# Altium footprint library My.PcbLib: 235 footprints (part 15 of 15)
Each footprint in its own frame and in the unit in brackets; x right, y up, seen from the top. Pads: shape width x height; smd on the part's side, far side on the other; paste and mask are expansions set on the pad; w line width, h text height; cw(c..) or ccw(c..) is an arc to the next point about the centre after c.
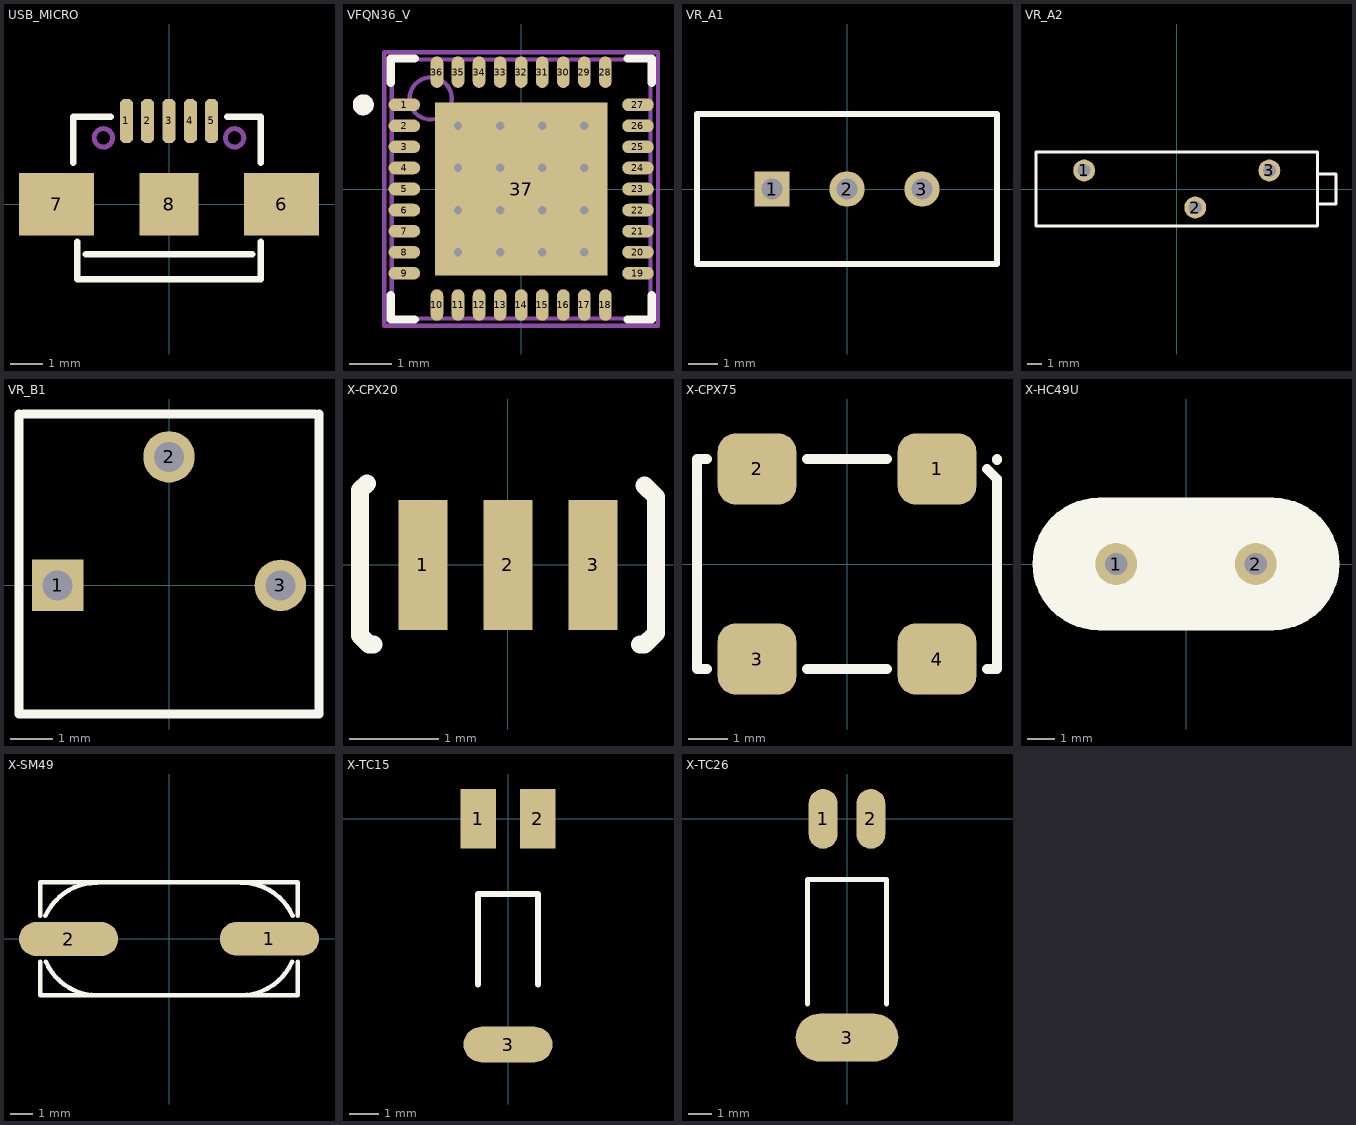
[diagram p14: the footprints below, top view; thin cyan lines are the x and y axes]

## USB_MICRO [mm] "USB方孔"
height 8
pads (8):
  oct 0.4x1.35 smd: 1(-1.3,2.54) 2(-0.65,2.54) 3(0,2.54) 4(0.65,2.54) 5(1.3,2.54)
  rect 2.286x1.9 smd: 6(3.429,0) 7(-3.429,0)
  rect 1.8x1.9 smd: 8(0,0)
Top Overlay:
  lines w0.2: -2.921,1.27 -2.921,2.667 -1.778,2.667 ; -2.794,-1.143 -2.794,-2.286 2.794,-2.286 2.794,-1.143 ; -2.54,-1.524 2.54,-1.524 ; 1.778,2.667 2.794,2.667 2.794,1.27
Mechanical 1:
  circle w0.15: c-2,2.023 r0.28
  circle w0.15: c2,2.023 r0.28

## VFQN36_V [mm] "QFN, 36-Leads, Body 6x6mm, Pitch 0.5mm, ST Recommended"
height 1
pads (37):
  oval 0.75x0.3 smd: 1(-2.775,2) 2(-2.775,1.5) 3(-2.775,1) 4(-2.775,0.5) 5(-2.775,0) 6(-2.775,-0.5) 7(-2.775,-1) 8(-2.775,-1.5) 9(-2.775,-2) 19(2.775,-2) 20(2.775,-1.5) 21(2.775,-1) 22(2.775,-0.5) 23(2.775,0) 24(2.775,0.5) 25(2.775,1) 26(2.775,1.5) 27(2.775,2)
  oval 0.3x0.75 smd: 10(-2,-2.755) 11(-1.5,-2.755) 12(-1,-2.755) 13(-0.5,-2.755) 14(0,-2.755) 15(0.5,-2.755) 16(1,-2.755) 17(1.5,-2.755) 18(2,-2.755) 28(2,2.775) 29(1.5,2.775) 30(1,2.775) 31(0.5,2.775) 32(0,2.775) 33(-0.5,2.775) 34(-1,2.775) 35(-1.5,2.775) 36(-2,2.775)
  rect 4.1x4.1 smd: 37(0,0)
via -1.5,1.5 diameter 0.4 hole 0.2
via -0.5,1.5 diameter 0.4 hole 0.2
via 0.5,1.5 diameter 0.4 hole 0.2
via 1.5,1.5 diameter 0.4 hole 0.2
via -1.5,0.5 diameter 0.4 hole 0.2
via -0.5,0.5 diameter 0.4 hole 0.2
via 0.5,0.5 diameter 0.4 hole 0.2
via 1.5,0.5 diameter 0.4 hole 0.2
via -1.5,-0.5 diameter 0.4 hole 0.2
via -0.5,-0.5 diameter 0.4 hole 0.2
via 0.5,-0.5 diameter 0.4 hole 0.2
via 1.5,-0.5 diameter 0.4 hole 0.2
via -1.5,-1.5 diameter 0.4 hole 0.2
via -0.5,-1.5 diameter 0.4 hole 0.2
via 0.5,-1.5 diameter 0.4 hole 0.2
via 1.5,-1.5 diameter 0.4 hole 0.2
Top Overlay:
  circle w0.25: c-3.75,2 r0.125
  lines w0.2: -3.1,-2.525 -3.1,-3.1 -2.525,-3.1 ; -3.1,2.525 -3.1,3.1 -2.525,3.1 ; 2.525,-3.1 3.1,-3.1 3.1,-2.525 ; 2.525,3.1 3.1,3.1 3.1,2.525
Mechanical 13:
  circle w0.1: c-2.15,2.15 r0.5
  lines w0.1: -3.075,3.05 -3.075,-3.075 3.075,-3.075 3.075,3.075 -3.075,3.075
Mechanical 15:
  lines w0.1: -0.5,0 0.5,0 ; 0,-0.5 0,0.5 ; -3.25,-3.25 -3.25,3.25 3.25,3.25 3.25,-3.25 -3.25,-3.25
3D body: height 1, standoff 0, extent -3.05,-3.05 3.05,3.05

## VR_A1 [mm] "Potentiometer; 3 Leads"
height 1.1
pads (3):
  rect 1.2x1.2 hole 0.7: 1(-2.54,0)
  round 1.2 hole 0.7: 2(0,0) 3(2.54,0)
Top Overlay:
  lines w0.2: -5.08,-2.54 5.08,-2.54 5.08,0 5.08,2.54 -5.08,2.54 -5.08,-2.54
3D body: height 10.5, standoff 10, extent 3.301,-1.765 4.337,-0.729
3D body: height 10, standoff 0, extent -5.08,-2.54 5.08,2.54

## VR_A2 [mm]
height 6.5
pads (3):
  round 1.5 hole 0.9: 1(-6.35,1.27) 2(1.27,-1.27) 3(6.35,1.27)
Top Overlay:
  lines w0.2: 9.652,-1.016 10.922,-1.016 10.922,1.016 9.652,1.016 ; -9.652,-2.54 9.652,-2.54 9.652,2.54 -9.652,2.54 -9.652,-2.54

## VR_B1 [mm] "Potentiometer; 3 Leads"
height 12
pads (3):
  rect 1.2x1.2 hole 0.7: 1(-2.6,0)
  round 1.2 hole 0.7: 2(0,3) 3(2.6,0)
Top Overlay:
  lines w0.2: -3.5,4 -3.5,-3 3.5,-3 3.5,4 ; -3.4,4 3.4,4

## X-CPX20 [mm] "贴片晶振"
pads (3):
  rect 0.55x1.45 smd: 1(-0.95,0) 2(0,0) 3(0.95,0)
Top Overlay:
  lines w0.2: -1.576,0.911 -1.651,0.836 -1.651,-0.789 -1.551,-0.889 -1.501,-0.889 ; 1.474,-0.889 1.524,-0.889 1.651,-0.762 1.651,0.762 1.524,0.889

## X-CPX75 [mm]
height 14.8
pads (4):
  rrect50% 2x1.8 smd: 1(2.281,2.415) 2(-2.291,2.415) 3(-2.291,-2.411) 4(2.281,-2.411)
Top Overlay:
  lines w0.254: -3.561,-2.665 -3.815,-2.665 -3.815,2.669 -3.561,2.669 ; -1.021,-2.665 1.011,-2.665 ; -1.021,2.669 1.011,2.669 ; 3.551,-2.665 3.805,-2.665 3.805,2.161 3.551,2.415 ; 3.805,2.644 3.805,2.669

## X-HC49U [mil] "插件晶振"
height 157.48
pads (2):
  round 60 hole 32: 1(-100,0) 2(100,0)
Top Overlay:
  lines w10: -125,-90 cw(c-125,0) -125,90 125,90 cw(c125,0) 125,-90 -125,-90
  lines w177.17: -125,0 125,0

## X-SM49 [mm]
height 14.8
pads (2):
  oval 4.4x1.5 smd: 1(4.45,0.004) 2(-4.45,-0.004)
Top Overlay:
  lines w0.2: -5.7,-2.499 5.718,-2.499 ; -5.7,-2.496 -5.7,-1.016 ; -5.7,1.016 -5.7,2.504 5.718,2.504 5.718,1.016 ; -5.477,1.023 cw(c-3.202,-0.013) -3.175,2.487 ; -5.461,-1.016 ccw(c-3.176,-0.001) -3.176,-2.501 ; 3.175,-2.5 ccw(c3.175,0) 5.46,-1.015 ; 3.175,2.496 cw(c3.202,-0.004) 5.48,1.025 ; 5.718,-2.496 5.718,-1.016

## X-TC15 [mm] "圆柱晶振1"
pads (3):
  rect 1.2x2 smd: 1(-1,0) 2(1,0)
  oval 3x1.2 smd: 3(0,-7.62)
Top Overlay:
  lines w0.2: -1.016,-5.588 -1.016,-2.54 1.016,-2.54 1.016,-5.588
3D body: height 1.99, standoff 0, extent -0.998,-8.286 0.998,-2.286
3D body: height 1.1, standoff 0.9, extent -0.735,-3 -0.535,0
3D body: height 1.1, standoff 0.9, extent 0.535,-3 0.735,0

## X-TC26 [mm] "圆柱晶振2"
pads (3):
  oval 1.2x2.5 smd: 1(-1,0) 2(1,0)
  oval 4.3x2 smd: 3(0,-9.144)
Top Overlay:
  lines w0.2: -1.651,-7.747 -1.651,-2.54 1.651,-2.54 1.651,-7.747